# Altium integrated library CAP1203-1-SN.IntLib: 1 symbol
Pins are listed as number, name and electrical type; pins without a type are passive.

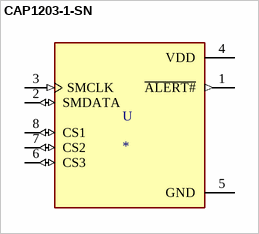
[diagram p0: symbol CAP1203-1-SN]

## CAP1203-1-SN
designator U
Capacitive Touch Buttons 8-SOIC; MP: CAP1203-1-SN; MF: Microchip; Price: None; Value: *; Package: SOIC-8 Microchip; Availability: Unavailable; SnapEDA_Link: https://www.snapeda.com/parts/CAP1203-1-SN/Microchip/view-part/553014/?ref=snap
footprint SOIC127P600X175-8N
pins: 1 ~{ALERT#} (out), 2 SMDATA (io), 3 SMCLK (in), 4 VDD (power), 5 GND (power), 6 CS3 (io), 7 CS2 (io), 8 CS1 (io)